# EAGLE library part CC1101 (library IGVC-Remote)
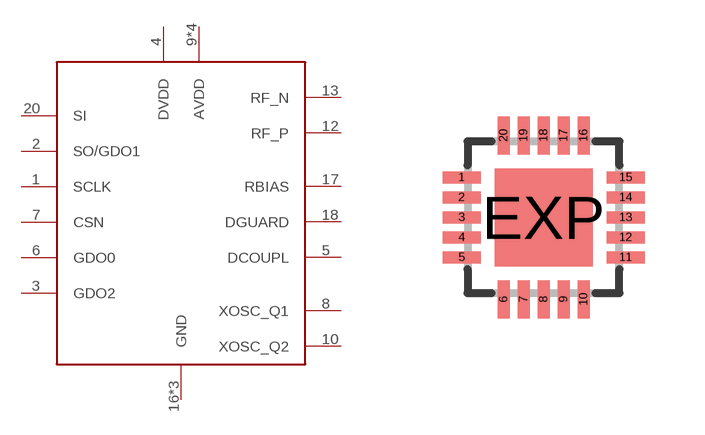
[diagram p1: symbol with the pads of QFN20; footprint QFN20]

Designator prefix U

## CC1101  [QFN20]
1  SCLK
2  SO/GDO1
3  GDO2
4  DVDD
5  DCOUPL
6  GDO0
7  CSN
8  XOSC_Q1
9  AVDD
10  XOSC_Q2
11  AVDD
12  RF_P
13  RF_N
14  AVDD
15  AVDD
16  GND
17  RBIAS
18  DGUARD
19  GND
20  SI
EXP  GND

## Footprint QFN20 (pad centres in mm)
ES Package, 20-Contact QFN with Exposed Thermal Pad Data sheet <http://www.allegromicro.com/en/Products/Part_Numbers/3906/3906.pdf>
smd 0.95 x 0.3: 1 -2.05,1; 2 -2.05,0.5; 3 -2.05,0; 4 -2.05,-0.5; 5 -2.05,-1; 11 2.05,-1; 12 2.05,-0.5; 13 2.05,0; 14 2.05,0.5; 15 2.05,1
smd 0.3 x 0.95: 6 -1,-2.05; 7 -0.5,-2.05; 8 0,-2.05; 9 0.5,-2.05; 10 1,-2.05; 16 1,2.05; 17 0.5,2.05; 18 0,2.05; 19 -0.5,2.05; 20 -1,2.05
smd 2.45 x 2.45: EXP 0,0